# Altium footprint library hdmiConnector-typeA.PcbLib: 1 footprints
Each footprint in its own frame and in the unit in brackets; x right, y up, seen from the top. Pads: shape width x height; smd on the part's side, far side on the other; paste and mask are expansions set on the pad; w line width, h text height; cw(c..) or ccw(c..) is an arc to the next point about the centre after c.
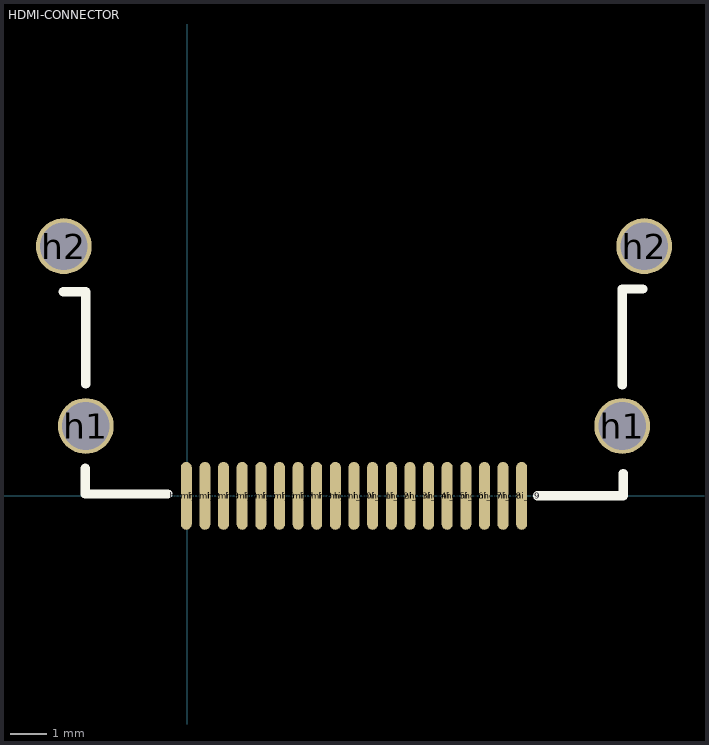
[diagram p0: the footprint, top view; thin cyan lines are the x and y axes]

## HDMI-CONNECTOR [mm] "SQFP, 38-Leads, Body 14.00x14.00mm, Pitch 0.50mm, IPC Medium Density"
height 2.45
pads (23):
  round 1.524 hole 1.3: h1(-2.765,1.905) h1(11.859,1.905) h2(-3.365,6.807) h2(12.459,6.807)
  oval 0.3x1.85 smd: hdmi_1(-0.025,0) hdmi_2(0.483,0) hdmi_3(0.991,0) hdmi_4(1.499,0) hdmi_5(2.007,0) hdmi_6(2.515,0) hdmi_7(3.023,0) hdmi_8(3.531,0) hdmi_9(4.039,0) hdmi_10(4.547,0) hdmi_11(5.055,0) hdmi_12(5.563,0) hdmi_13(6.071,0) hdmi_14(6.579,0) hdmi_15(7.087,0) hdmi_16(7.595,0) hdmi_17(8.103,0) hdmi_18(8.611,0) hdmi_19(9.119,0)
Top Overlay:
  lines w0.254: -3.378,5.563 -2.769,5.563 -2.769,3.048 ; -2.775,0.755 -2.775,0.051 -0.533,0.051 ; 9.55,0 11.887,0 11.887,0.61 ; 11.862,3.023 11.862,5.639 12.421,5.639